# EAGLE library part LT3465 (library nokia_6100)
1.2MHz/2.4MHz White LED Drivers with Built-in Schottky in ThinSOT The LT®3465/LT3465A are step-up DC/DC converters designed to drive up to six LEDs in series from a Li-Ion cell. Series connection of the LEDs provides identical LED currents and eliminates the need for ballast resistors. These devices integrate the Schottky diode required exter- nally on competing devices. Additional features include output voltage limiting when LEDs are disconnected, one- pin shutdown and dimming control. The LT3465 has internal soft-start. The LT3465 switches at 1.2MHz, allowing the use of tiny external components. The faster LT3465A switches at 2.4MHz. Constant frequency switching results in low input noise and a small output capacitor. Just 0.22F is required for 3-, 4- or 5-LED applications. The LT3465 and LT3465A are available in the low profile (1mm) 6-lead SOT-23 (ThinSOTTM) package.
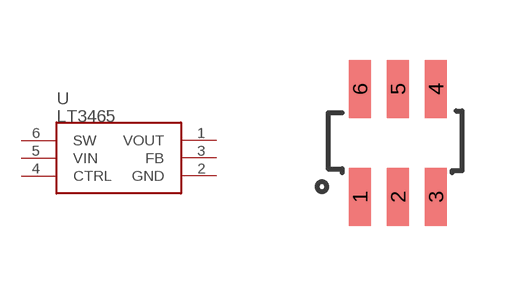
[diagram p1: symbol with the pads of SOT23-6; footprint SOT23-6]

Designator prefix -

## LT3465  [SOT23-6]
1  VOUT
2  GND
3  FB
4  CTRL
5  VIN
6  SW

## Footprint SOT23-6 (pad centres in mm)
smd 0.55 x 1.45: 1 0,0; 2 0.95,0; 3 1.9,0; 4 1.9,2.7; 5 0.95,2.7; 6 0,2.7